# Altium schematic symbol library tvc_lib_sch.SchLib: 14 symbols
Pins are listed as number, name and electrical type; pins without a type are passive.

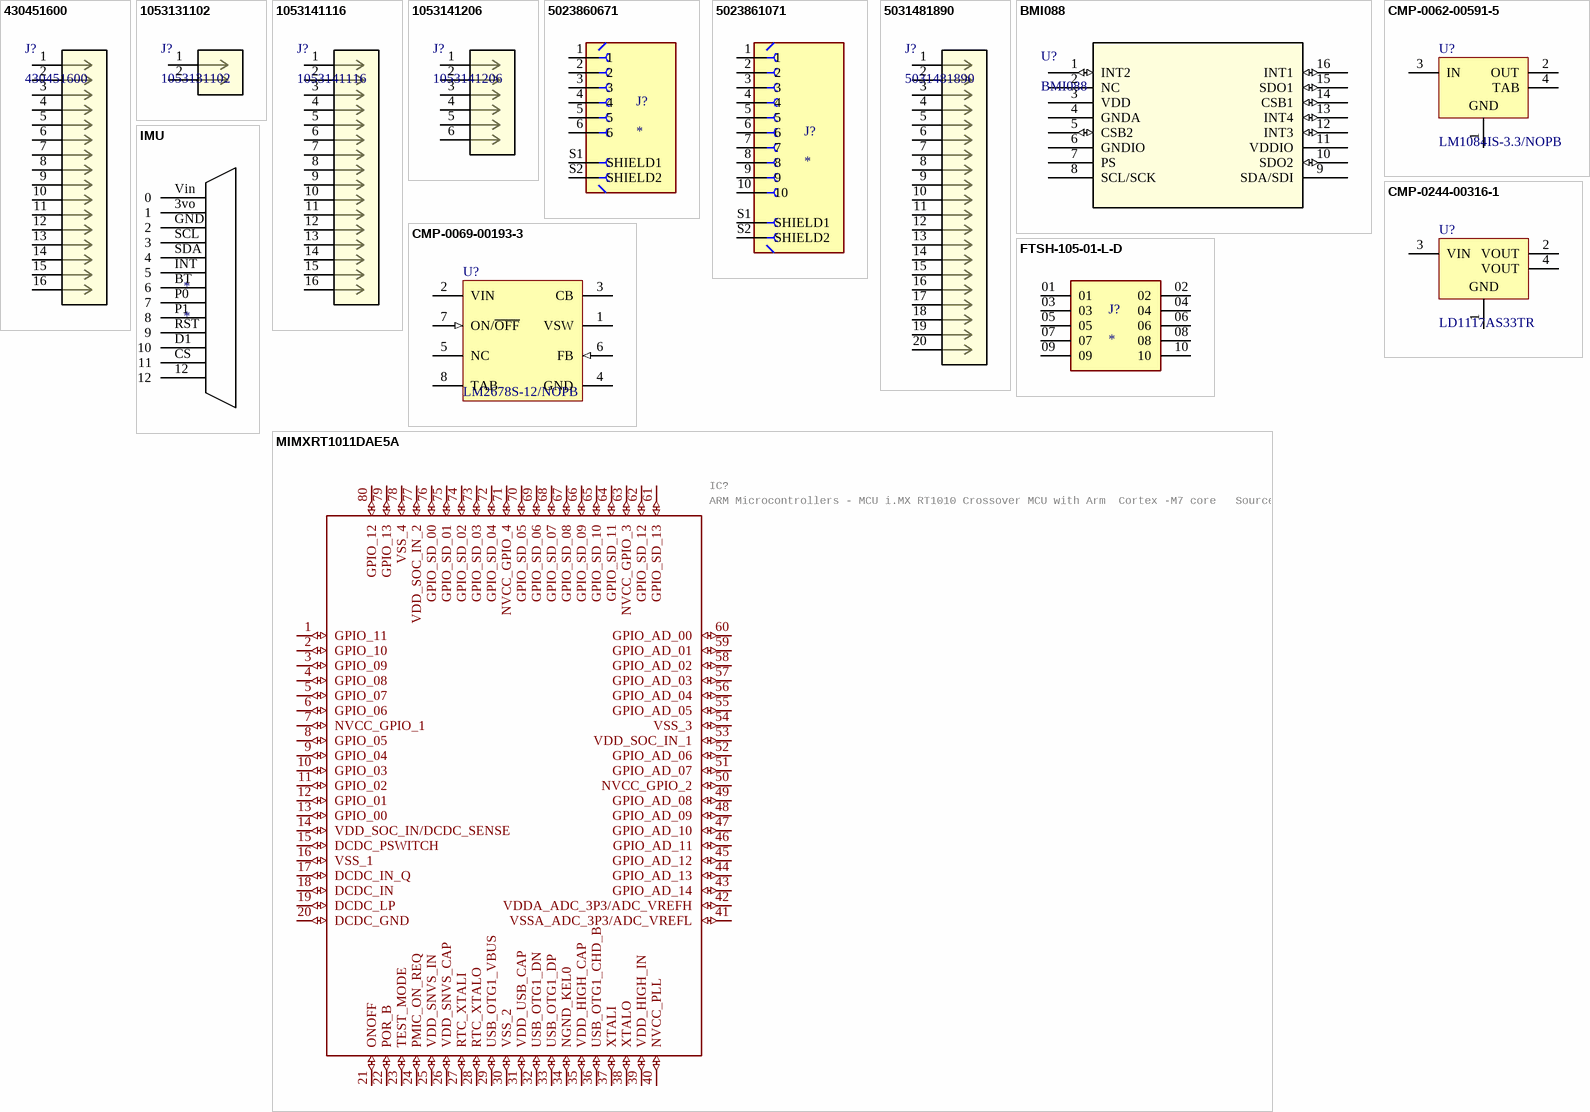
[diagram p0: symbols 430451600 to MIMXRT1011DAE5A]

## 430451600
designator J?
No Description Available; Mfr_Name: Molex Connector Corporation; Copyright: Copyright (C) 2022 Ultra Librarian. All rights reserved.; Manufacturer_Part_Number: 430451600; RefDes: RefDes; Type: DEV
footprint CON_430451600_MOL
pins: 1, 2, 3, 4, 5, 6, 7, 8, 9, 10, 11, 12, 13, 14, 15, 16

## 1053131102
designator J?
No Description Available; Mfr_Name: Molex Connector Corporation; Copyright: Copyright (C) 2022 Ultra Librarian. All rights reserved.; Manufacturer_Part_Number: 1053131102; RefDes: RefDes; Type: DEV
footprint CON_1053131102
pins: 1, 2

## 1053141116
designator J?
No Description Available; Mfr_Name: Molex Connector Corporation; Copyright: Copyright (C) 2022 Ultra Librarian. All rights reserved.; Manufacturer_Part_Number: 1053141116; RefDes: RefDes; Type: DEV
footprint CON_1053141116
pins: 1, 2, 3, 4, 5, 6, 7, 8, 9, 10, 11, 12, 13, 14, 15, 16

## 1053141206
designator J?
No Description Available; Mfr_Name: Molex Connector Corporation; Copyright: Copyright (C) 2022 Ultra Librarian. All rights reserved.; Manufacturer_Part_Number: 1053141206; RefDes: RefDes; Type: DEV
footprint CON_1053141206
pins: 1, 2, 3, 4, 5, 6

## 5023860671
designator J?
1.25mm Pitch CLIK-Mate Wire-to-Board PCB Receptacle, Single Row, Right-Angle, Gold (Au) Plating, 6 Circuits; MP: 5023860671; MF: Molex; Availability: In Stock; Check_prices: https://www.snapeda.com/parts/5023860671/Molex/view-part/?ref=eda; Value: *; Package: None; Price: None; SnapEDA_Link: https://www.snapeda.com/parts/5023860671/Molex/view-part/?ref=snap; Purchase-URL: https://pricing.snapeda.com/search/part/5023860671/?ref=eda
footprint MOLEX_5023860671
pins: 1, 2, 3, 4, 5, 6, S1 SHIELD1, S2 SHIELD2

## 5023861071
designator J?
1.25mm Pitch CLIK-Mate Wire-to-Board PCB Receptacle, Single Row, Right-Angle, Tin (Sn) Plating; MP: 5023861071; Value: *; Package: None; Price: None; Availability: Unavailable
footprint MOLEX_5023861071
pins: 1, 2, 3, 4, 5, 6, 7, 8, 9, 10, S1 SHIELD1, S2 SHIELD2

## 5031481890
designator J?
No Description Available; Mfr_Name: Molex Connector Corporation; Copyright: Copyright (C) 2022 Ultra Librarian. All rights reserved.; Manufacturer_Part_Number: 5031481890; RefDes: RefDes; Type: DEV
footprint CON_5031481890_MOL
pins: 1, 2, 3, 4, 5, 6, 7, 8, 9, 10, 11, 12, 13, 14, 15, 16, 17, 18, 19, 20

## BMI088
designator U?
No Description Available; Mfr_Name: Bosch Sensortec; Copyright: Copyright (C) 2022 Ultra Librarian. All rights reserved.; Manufacturer_Part_Number: BMI088; RefDes: RefDes; Type: DEV
footprint QFN_BMI085_BOS
pins: 1 INT2 (io), 2 NC, 3 VDD (power), 4 GNDA, 5 CSB2 (io), 6 GNDIO, 7 PS, 8 SCL/SCK, 9 SDA/SDI, 10 SDO2 (io), 11 VDDIO (power), 12 INT3 (io), 13 INT4 (io), 14 CSB1 (io), 15 SDO1 (io), 16 INT1 (io)

## CMP-0062-00591-5
designator U?, comment LM1084IS-3.3/NOPB
5A Low Dropout Positive Regulators, 3-pin TO-263, Pb-Free; Manufacturer: Texas Instruments; High-Reliability: Y; CompType: LDO IC; PowerWise: N; PackageTopMarking: NSUZXYTTE#*LM1084*IS-3.3; PartNumber: LM1084IS-3.3/NOPB; PinCount: 3; ComponentLink1Description: Datasheet URL; Code_JEDEC: MO-169-AA; PackageDescription: TO-263, Molded, .400 x .390 x .180in, 3 Lead, .1in Pitch, Surface Mount; PackageReference: KTT0003B; RoHS: Y; ComponentLink1URL: http://www.ti.com/general/docs/lit/getliterature.tsp?genericPartNumber=LM1084&fileType=pdf
footprint KTT0003B_M (D2-PAK, 3-Leads, Body 10.41x8.89mm, Pitch 2.54mm, IPC Low Density)
footprint KTT0003B_N (D2-PAK, 3-Leads, Body 10.41x8.89mm, Pitch 2.54mm, IPC Medium Density)
footprint KTT0003B_L (D2-PAK, 3-Leads, Body 10.41x8.89mm, Pitch 2.54mm, IPC High Density)
pins: 1 GND (power), 2 OUT (power), 3 IN (power), 4 TAB (power)

## CMP-0069-00193-3
designator U?, comment LM2678S-12/NOPB
SIMPLE SWITCHER® High Efficiency 5A Step-Down Voltage Regulator, 7-pin TO-263, Pb-Free; Manufacturer: Texas Instruments; PackageTopMarking: NSUZXYTTE#*LM2678*S-12; PowerWise: N; ComponentLink1URL: http://www.ti.com/general/docs/lit/getliterature.tsp?genericPartNumber=LM2678&fileType=pdf; RoHS: Y; PinCount: 7; ComponentLink1Description: Datasheet URL; CompType: Switcher; PackageDescription: TO-263, Molded, .400 x .390 x .180in Body, 7 Lead, .050in Pitch, Surface Mount; Code_JEDEC: MO-169-AC; PackageReference: KTW0007B
footprint KTW0007B_N (DPAK, 7-Leads, Body 9.4x10.4mm, Pitch 1.27mm, IPC Medium Density)
footprint KTW0007B_M (DPAK, 7-Leads, Body 9.4x10.4mm, Pitch 1.27mm, IPC Low Density)
footprint KTW0007B_L (DPAK, 7-Leads, Body 9.4x10.4mm, Pitch 1.27mm, IPC High Density)
pins: 1 VSW (power), 2 VIN (power), 3 CB, 4 GND (power), 5 NC, 6 FB (in), 7 ON/~{OFF} (in), 8 TAB (power)

## CMP-0244-00316-1
designator U?, comment LD1117AS33TR
1A, Low Drop Positive Voltage Regulator, 3.3V, 4-Pin SOT-223, Tape and Reel; ComponentLink1Description: Manufacturer URL; DatasheetVersion: 2/12/2011; PackageVersion: 2010; ComponentLink1URL: http://www.st.com; ComponentLink2Description: Datasheet; ComponentLink2URL: http://www.st.com/internet/com/TECHNICAL_RESOURCES/TECHNICAL_LITERATURE/DATASHEET/CD00002116.pdf; PackageDescription: 4-Pin SOT-223 Package, 6.5 x 3.5 mm Body, 2.3 mm Pitch, 7 mm Lead Span; PackageReference: SOT-223
footprint SOT-223_L (SOT223, 4-Leads, Body 6.5x3.5mm, Pitch 2.3mm, Lead Span 7mm, IPC High Density)
footprint SOT-223_N (SOT223, 4-Leads, Body 6.5x3.5mm, Pitch 2.3mm, Lead Span 7mm, IPC Medium Density)
footprint SOT-223_M (SOT223, 4-Leads, Body 6.5x3.5mm, Pitch 2.3mm, Lead Span 7mm, IPC Low Density)
pins: 1 GND (power), 2 VOUT (power), 3 VIN (power), 4 VOUT (power)

## FTSH-105-01-L-D
designator J?
Connector Header Surface Mount 10 position 0.050 (1.27mm); MP: FTSH-105-01-L-D; MF: Samtec; Package: Connector Header Samtec; Purchase-URL: https://pricing.snapeda.com/search/part/FTSH-105-01-L-D/?ref=eda; Value: *; Availability: Good; Price: None
footprint SAMTEC_FTSH-105-01-L-D
pins: 01, 02, 03, 04, 05, 06, 07, 08, 09, 10

## IMU
designator *
footprint IMU (IMU Daughter Board)
pins: 3vo 1, 12, BT 6, CS 11, D1 10, GND 2, INT 5, P0 7, P1 8, RST 9, SCL 3, SDA 4, Vin 0

## MIMXRT1011DAE5A
designator IC?, comment ARM Microcontrollers - MCU i.MX RT1010 Crossover MCU with Arm  Cortex -M7 core   Source:  Datasheet
Manufacturer_Name: NXP; GateName_1: G$1; SymbolName_1: MIMXRT1011DAE5A; LibraryName: MIMXRT1011DAE5A; DeviceSetName: MIMXRT1011DAE5A; Package: QFP50P1400X1400X160-80N; Manufacturer_Part_Number: MIMXRT1011DAE5A; Mouser_Part_Number: 771-MIMXRT1011DAE5A; Mouser_Price-Stock: https://www.mouser.co.uk/ProductDetail/NXP-Semiconductors/MIMXRT1011DAE5A?qs=P1JMDcb91o5GoeF%252BJrcvqQ%3D%3D; Arrow_Part_Number: MIMXRT1011DAE5A; Arrow_Price-Stock: https://www.arrow.com/en/products/mimxrt1011dae5a/nxp-semiconductors; Height: 1.6mm
footprint QFP50P1400X1400X160-80N
pins: 1 GPIO_11 (io), 2 GPIO_10 (io), 3 GPIO_09 (io), 4 GPIO_08 (io), 5 GPIO_07 (io), 6 GPIO_06 (io), 7 NVCC_GPIO_1 (io), 8 GPIO_05 (io), 9 GPIO_04 (io), 10 GPIO_03 (io), 11 GPIO_02 (io), 12 GPIO_01 (io), 13 GPIO_00 (io), 14 VDD_SOC_IN/DCDC_SENSE (io), 15 DCDC_PSWITCH (io), 16 VSS_1 (io), 17 DCDC_IN_Q (io), 18 DCDC_IN (io), 19 DCDC_LP (io), 20 DCDC_GND (io), 21 ONOFF (io), 22 POR_B (io), 23 TEST_MODE (io), 24 PMIC_ON_REQ (io), 25 VDD_SNVS_IN (io), 26 VDD_SNVS_CAP (io), 27 RTC_XTALI (io), 28 RTC_XTALO (io), 29 USB_OTG1_VBUS (io), 30 VSS_2 (io), 31 VDD_USB_CAP (io), 32 USB_OTG1_DN (io), 33 USB_OTG1_DP (io), 34 NGND_KEL0 (io), 35 VDD_HIGH_CAP (io), 36 USB_OTG1_CHD_B (io), 37 XTALI (io), 38 XTALO (io), 39 VDD_HIGH_IN (io), 40 NVCC_PLL (io), 41 VSSA_ADC_3P3/ADC_VREFL (io), 42 VDDA_ADC_3P3/ADC_VREFH (io), 43 GPIO_AD_14 (io), 44 GPIO_AD_13 (io), 45 GPIO_AD_12 (io), 46 GPIO_AD_11 (io), 47 GPIO_AD_10 (io), 48 GPIO_AD_09 (io), 49 GPIO_AD_08 (io), 50 NVCC_GPIO_2 (io), 51 GPIO_AD_07 (io), 52 GPIO_AD_06 (io), 53 VDD_SOC_IN_1 (io), 54 VSS_3 (io), 55 GPIO_AD_05 (io), 56 GPIO_AD_04 (io), 57 GPIO_AD_03 (io), 58 GPIO_AD_02 (io), 59 GPIO_AD_01 (io), 60 GPIO_AD_00 (io), 61 GPIO_SD_13 (io), 62 GPIO_SD_12 (io), 63 NVCC_GPIO_3 (io), 64 GPIO_SD_11 (io), 65 GPIO_SD_10 (io), 66 GPIO_SD_09 (io), 67 GPIO_SD_08 (io), 68 GPIO_SD_07 (io), 69 GPIO_SD_06 (io), 70 GPIO_SD_05 (io), 71 NVCC_GPIO_4 (io), 72 GPIO_SD_04 (io), 73 GPIO_SD_03 (io), 74 GPIO_SD_02 (io), 75 GPIO_SD_01 (io), 76 GPIO_SD_00 (io), 77 VDD_SOC_IN_2 (io), 78 VSS_4 (io), 79 GPIO_13 (io), 80 GPIO_12 (io)